# EAGLE library part ATMEGA328P-MU (library Stanford Metro Mini)
ATmega328P-RU Notes: This is the 32MLF / 32M1-A package There is a center pad which must be connected to ground (hence pin 33!) This is distinct from the 328P-AU!
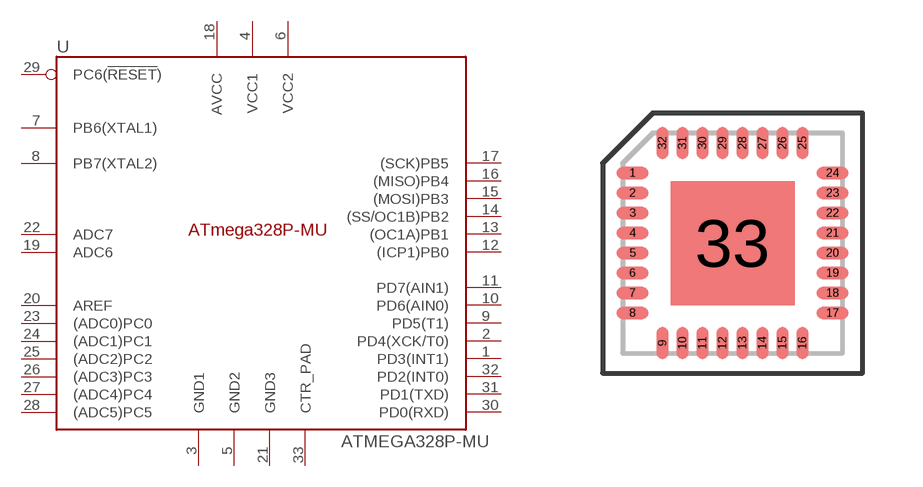
[diagram p0: symbol with the pads of VQFN-32_CTR-PAD; footprint VQFN-32_CTR-PAD]

Designator prefix U

## ATMEGA328P-MU  [VQFN-32_CTR-PAD]
1  PD3(INT1)
2  PD4(XCK/T0)
3  GND1  pwr
4  VCC1
5  GND2  pwr
6  VCC2
7  PB6(XTAL1)
8  PB7(XTAL2)
9  PD5(T1)
10  PD6(AIN0)
11  PD7(AIN1)
12  (ICP1)PB0
13  (OC1A)PB1
14  (SS/OC1B)PB2
15  (MOSI)PB3
16  (MISO)PB4
17  (SCK)PB5
18  AVCC
19  ADC6
20  AREF
21  GND3  pwr
22  ADC7
23  (ADC0)PC0
24  (ADC1)PC1
25  (ADC2)PC2
26  (ADC3)PC3
27  (ADC4)PC4
28  (ADC5)PC5
29  PC6(!RESET!)
30  PD0(RXD)
31  PD1(TXD)
32  PD2(INT0)
33  CTR_PAD  pwr

## Footprint VQFN-32_CTR-PAD (pad centres in mm)
smd 0.8 x 0.3: 1 -2.5,1.75; 2 -2.5,1.25; 3 -2.5,0.75; 4 -2.5,0.25; 5 -2.5,-0.25; 6 -2.5,-0.75; 7 -2.5,-1.25; 8 -2.5,-1.75; 17 2.5,-1.75; 18 2.5,-1.25; 19 2.5,-0.75; 20 2.5,-0.25; 21 2.5,0.25; 22 2.5,0.75; 23 2.5,1.25; 24 2.5,1.75
smd 0.3 x 0.8: 9 -1.75,-2.5; 10 -1.25,-2.5; 11 -0.75,-2.5; 12 -0.25,-2.5; 13 0.25,-2.5; 14 0.75,-2.5; 15 1.25,-2.5; 16 1.75,-2.5; 25 1.75,2.5; 26 1.25,2.5; 27 0.75,2.5; 28 0.25,2.5; 29 -0.25,2.5; 30 -0.75,2.5; 31 -1.25,2.5; 32 -1.75,2.5
smd 3.1 x 3.1: 33 0,0